# EAGLE library part DK61U (library inductors)
FILTER
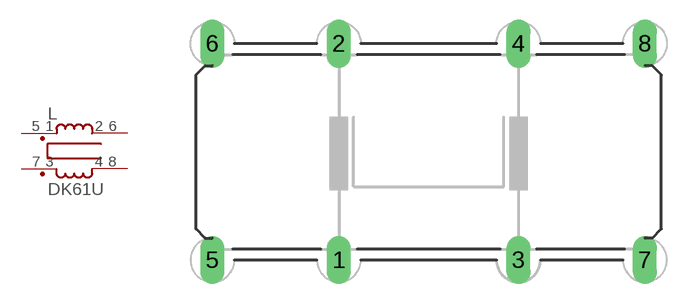
[diagram p3: symbol with the pads of DK61; footprint DK61]

Designator prefix L

## DK61U  [DK61]
1  1  pas
2  2  pas
3  3  pas
4  4  pas
5  5  pas
6  6  pas
7  7  pas
8  8  pas

## Footprint DK61 (pad centres in mm)
FILTER manufacturer Vogt
drill 1.118 long: 1 -6.223,-7.493; 2 -6.223,7.493; 3 6.223,-7.493; 4 6.223,7.493; 5 -14.986,-7.493; 6 -14.986,7.493; 7 14.986,-7.493; 8 14.986,7.493